# Altium schematic symbol library TLC542.SchLib: 1 symbol
Pins are listed as number, name and electrical type; pins without a type are passive.

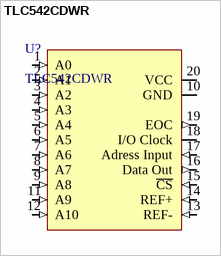
[diagram p0: symbol TLC542CDWR]

## TLC542CDWR
designator U?
IC 8-BIT 11-CH A/D CONV 20-SOIC; Manufacture: TI; Manufacture P/N: TLC542CDWR; Notes: *; Supplier 1: Digi-Key; Supplier Part Number 1: 296-1332-2-ND
footprint SOIC-20_ADC (SOIC, 20-Leads, Body 12.79x7.50mm, Pitch 1.27mm, IPC Medium Density)
pins: 1 A0 (in), 2 A1 (in), 3 A2 (in), 4 A3 (in), 5 A4 (in), 6 A5 (in), 7 A6 (in), 8 A7 (in), 9 A8 (in), 10 GND (power), 11 A9 (in), 12 A10 (in), 13 REF- (in), 14 REF+ (in), 15 ~{CS} (in), 16 Data Out (out), 17 Adress Input (in), 18 I/O Clock (io), 19 EOC (out), 20 VCC (power)